# EAGLE library part FMC-LPC (library fmc_zed)
FMC-LPC Bottom side connector for interfacing with Xilinx FPGA development boards (e.g. SP605)
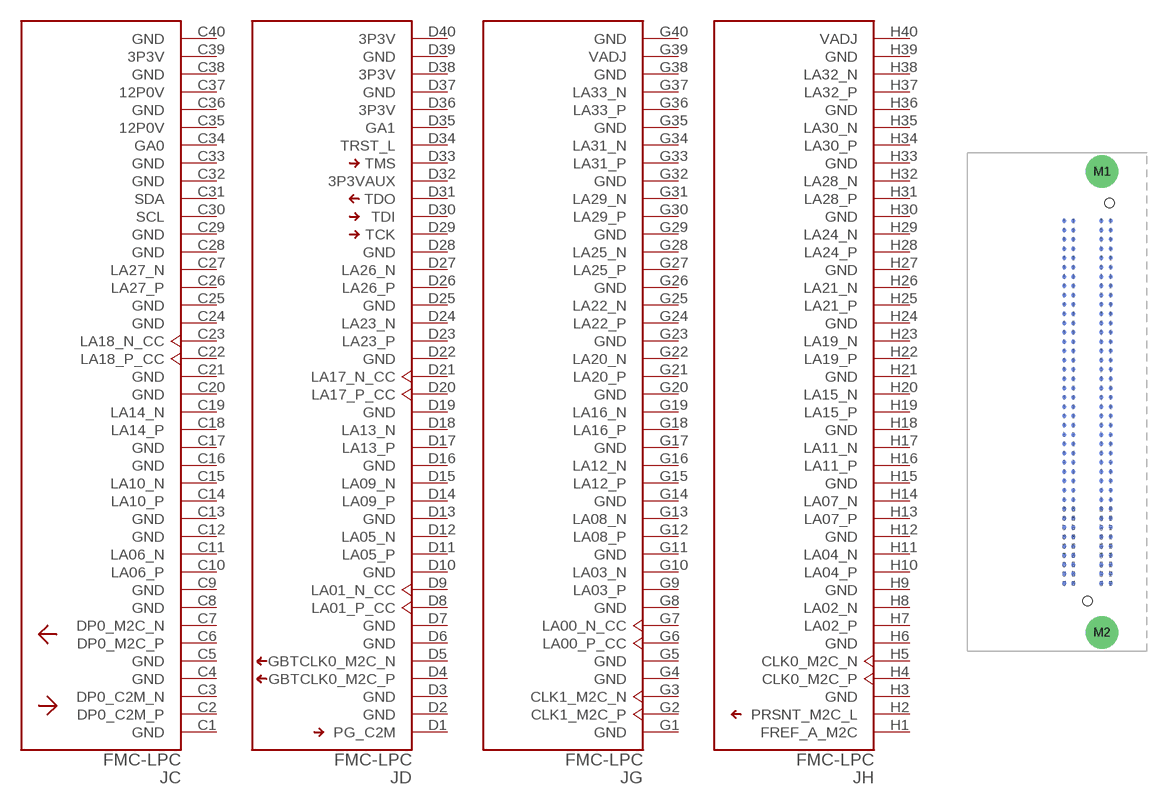
[diagram p2: symbol with the pads of FMC-LPC-MALE; footprint FMC-LPC-MALE]

Designator prefix J; gates C=FMC-LPC-C D=FMC-LPC-D G=FMC-LPC-G H=FMC-LPC-H

## FMC-LPC  [FMC-LPC-MALE]
C1  C:GND  pas
C2  C:DP0_C2M_P  out
C3  C:DP0_C2M_N  out
C4  C:GND  pas
C5  C:GND  pas
C6  C:DP0_M2C_P  in
C7  C:DP0_M2C_N  in
C8  C:GND  pas
C9  C:GND  pas
C10  C:LA06_P
C11  C:LA06_N
C12  C:GND  pas
C13  C:GND  pas
C14  C:LA10_P
C15  C:LA10_N
C16  C:GND  pas
C17  C:GND  pas
C18  C:LA14_P
C19  C:LA14_N
C20  C:GND  pas
C21  C:GND  pas
C22  C:LA18_P_CC
C23  C:LA18_N_CC
C24  C:GND  pas
C25  C:GND  pas
C26  C:LA27_P
C27  C:LA27_N
C28  C:GND  pas
C29  C:GND  pas
C30  C:SCL
C31  C:SDA
C32  C:GND  pas
C33  C:GND  pas
C34  C:GA0  out
C35  C:12P0V  pas
C36  C:GND  pas
C37  C:12P0V  pas
C38  C:GND  pas
C39  C:3P3V  pas
C40  C:GND  pas
D1  D:PG_C2M  out
D2  D:GND  pas
D3  D:GND  pas
D4  D:GBTCLK0_M2C_P  in
D5  D:GBTCLK0_M2C_N  in
D6  D:GND  pas
D7  D:GND  pas
D8  D:LA01_P_CC
D9  D:LA01_N_CC
D10  D:GND  pas
D11  D:LA05_P
D12  D:LA05_N
D13  D:GND  pas
D14  D:LA09_P
D15  D:LA09_N
D16  D:GND  pas
D17  D:LA13_P
D18  D:LA13_N
D19  D:GND  pas
D20  D:LA17_P_CC
D21  D:LA17_N_CC
D22  D:GND  pas
D23  D:LA23_P
D24  D:LA23_N
D25  D:GND  pas
D26  D:LA26_P
D27  D:LA26_N
D28  D:GND  pas
D29  D:TCK  out
D30  D:TDI  out
D31  D:TDO  in
D32  D:3P3VAUX  pas
D33  D:TMS  out
D34  D:TRST_L  out
D35  D:GA1  out
D36  D:3P3V  pas
D37  D:GND  pas
D38  D:3P3V  pas
D39  D:GND  pas
D40  D:3P3V  pas
G1  G:GND  pas
G2  G:CLK1_M2C_P
G3  G:CLK1_M2C_N
G4  G:GND  pas
G5  G:GND  pas
G6  G:LA00_P_CC
G7  G:LA00_N_CC
G8  G:GND  pas
G9  G:LA03_P
G10  G:LA03_N
G11  G:GND  pas
G12  G:LA08_P
G13  G:LA08_N
G14  G:GND  pas
G15  G:LA12_P
G16  G:LA12_N
G17  G:GND  pas
G18  G:LA16_P
G19  G:LA16_N
G20  G:GND  pas
G21  G:LA20_P
G22  G:LA20_N
G23  G:GND  pas
G24  G:LA22_P
G25  G:LA22_N
G26  G:GND  pas
G27  G:LA25_P
G28  G:LA25_N
G29  G:GND  pas
G30  G:LA29_P
G31  G:LA29_N
G32  G:GND  pas
G33  G:LA31_P
G34  G:LA31_N
G35  G:GND  pas
G36  G:LA33_P
G37  G:LA33_N
G38  G:GND  pas
G39  G:VADJ  pas
G40  G:GND  pas
H1  H:FREF_A_M2C  pas
H2  H:PRSNT_M2C_L  in
H3  H:GND  pas
H4  H:CLK0_M2C_P
H5  H:CLK0_M2C_N
H6  H:GND  pas
H7  H:LA02_P
H8  H:LA02_N
H9  H:GND  pas
H10  H:LA04_P
H11  H:LA04_N
H12  H:GND  pas
H13  H:LA07_P
H14  H:LA07_N
H15  H:GND  pas
H16  H:LA11_P
H17  H:LA11_N
H18  H:GND  pas
H19  H:LA15_P
H20  H:LA15_N
H21  H:GND  pas
H22  H:LA19_P
H23  H:LA19_N
H24  H:GND  pas
H25  H:LA21_P
H26  H:LA21_N
H27  H:GND  pas
H28  H:LA24_P
H29  H:LA24_N
H30  H:GND  pas
H31  H:LA28_P
H32  H:LA28_N
H33  H:GND  pas
H34  H:LA30_P
H35  H:LA30_N
H36  H:GND  pas
H37  H:LA32_P
H38  H:LA32_N
H39  H:GND  pas
H40  H:VADJ  pas

## Footprint FMC-LPC-MALE (pad centres in mm)
FMC-LPC Outline and mounting holes consistent with Xilinx SP605 board http://www.samtec.com/search/vita57fmc.aspx http://www.samtec.com/documents/webfiles/Cpdf/ASP-127797-01.pdf ASP-127797-01 / MC-LPC-10L ASP-134604-01 / MC-LPC-10
smd 0.635 x 0.635 bottom: C1 -3.175,-24.765; C2 -3.175,-23.495; C3 -3.175,-22.225; C4 -3.175,-20.955; C5 -3.175,-19.685; C6 -3.175,-18.415; C7 -3.175,-17.145; C8 -3.175,-15.875; C9 -3.175,-14.605; C10 -3.175,-13.335; C11 -3.175,-12.065; C12 -3.175,-10.795; C13 -3.175,-9.525; C14 -3.175,-8.255; C15 -3.175,-6.985; C16 -3.175,-5.715; C17 -3.175,-4.445; C18 -3.175,-3.175; C19 -3.175,-1.905; C20 -3.175,-0.635; C21 -3.175,0.635; C22 -3.175,1.905; C23 -3.175,3.175; C24 -3.175,4.445; C25 -3.175,5.715; C26 -3.175,6.985; C27 -3.175,8.255; C28 -3.175,9.525; C29 -3.175,10.795; C30 -3.175,12.065; C31 -3.175,13.335; C32 -3.175,14.605; C33 -3.175,15.875; C34 -3.175,17.145; C35 -3.175,18.415; C36 -3.175,19.685; C37 -3.175,20.955; C38 -3.175,22.225; C39 -3.175,23.495; C40 -3.175,24.765; D1 -1.905,-24.765; D2 -1.905,-23.495; D3 -1.905,-22.225; D4 -1.905,-20.955; D5 -1.905,-19.685; D6 -1.905,-18.415; D7 -1.905,-17.145; D8 -1.905,-15.875; D9 -1.905,-14.605; D10 -1.905,-13.335; D11 -1.905,-12.065; D12 -1.905,-10.795; D13 -1.905,-9.525; D14 -1.905,-8.255; D15 -1.905,-6.985; D16 -1.905,-5.715; D17 -1.905,-4.445; D18 -1.905,-3.175; D19 -1.905,-1.905; D20 -1.905,-0.635; D21 -1.905,0.635; D22 -1.905,1.905; D23 -1.905,3.175; D24 -1.905,4.445; D25 -1.905,5.715; D26 -1.905,6.985; D27 -1.905,8.255; D28 -1.905,9.525; D29 -1.905,10.795; D30 -1.905,12.065; D31 -1.905,13.335; D32 -1.905,14.605; D33 -1.905,15.875; D34 -1.905,17.145; D35 -1.905,18.415; D36 -1.905,19.685; D37 -1.905,20.955; D38 -1.905,22.225; D39 -1.905,23.495; D40 -1.905,24.765; G1 1.905,-24.765; G2 1.905,-23.495; G3 1.905,-22.225; G4 1.905,-20.955; G5 1.905,-19.685; G6 1.905,-18.415; G7 1.905,-17.145; G8 1.905,-15.875; G9 1.905,-14.605; G10 1.905,-13.335; G11 1.905,-12.065; G12 1.905,-10.795; G13 1.905,-9.525; G14 1.905,-8.255; G15 1.905,-6.985; G16 1.905,-5.715; G17 1.905,-4.445; G18 1.905,-3.175; G19 1.905,-1.905; G20 1.905,-0.635; G21 1.905,0.635; G22 1.905,1.905; G23 1.905,3.175; G24 1.905,4.445; G25 1.905,5.715; G26 1.905,6.985; G27 1.905,8.255; G28 1.905,9.525; G29 1.905,10.795; G30 1.905,12.065; G31 1.905,13.335; G32 1.905,14.605; G33 1.905,15.875; G34 1.905,17.145; G35 1.905,18.415; G36 1.905,19.685; G37 1.905,20.955; G38 1.905,22.225; G39 1.905,23.495; G40 1.905,24.765; H1 3.175,-24.765; H2 3.175,-23.495; H3 3.175,-22.225; H4 3.175,-20.955; H5 3.175,-19.685; H6 3.175,-18.415; H7 3.175,-17.145; H8 3.175,-15.875; H9 3.175,-14.605; H10 3.175,-13.335; H11 3.175,-12.065; H12 3.175,-10.795; H13 3.175,-9.525; H14 3.175,-8.255; H15 3.175,-6.985; H16 3.175,-5.715; H17 3.175,-4.445; H18 3.175,-3.175; H19 3.175,-1.905; H20 3.175,-0.635; H21 3.175,0.635; H22 3.175,1.905; H23 3.175,3.175; H24 3.175,4.445; H25 3.175,5.715; H26 3.175,6.985; H27 3.175,8.255; H28 3.175,9.525; H29 3.175,10.795; H30 3.175,12.065; H31 3.175,13.335; H32 3.175,14.605; H33 3.175,15.875; H34 3.175,17.145; H35 3.175,18.415; H36 3.175,19.685; H37 3.175,20.955; H38 3.175,22.225; H39 3.175,23.495; H40 3.175,24.765
drill 2.692 pad 4.445: M1 2.007,31.496; M2 2.007,-31.496
hole 1.321 at 0,-27.191
hole 1.321 at 3.048,27.191